# Altium schematic symbol library VSFFM.Schlib: 1 symbol
Pins are listed as number, name and electrical type; pins without a type are passive.

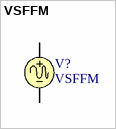
[diagram p0: symbol VSFFM]

## VSFFM
designator V?
Frequency-Modulated Sinusoidal Voltage Source
pins: 1, 2